# Altium schematic symbol library jlcpcb_2025_04_inductors_extended_0201.schlib: 459 symbols (part 7 of 9)
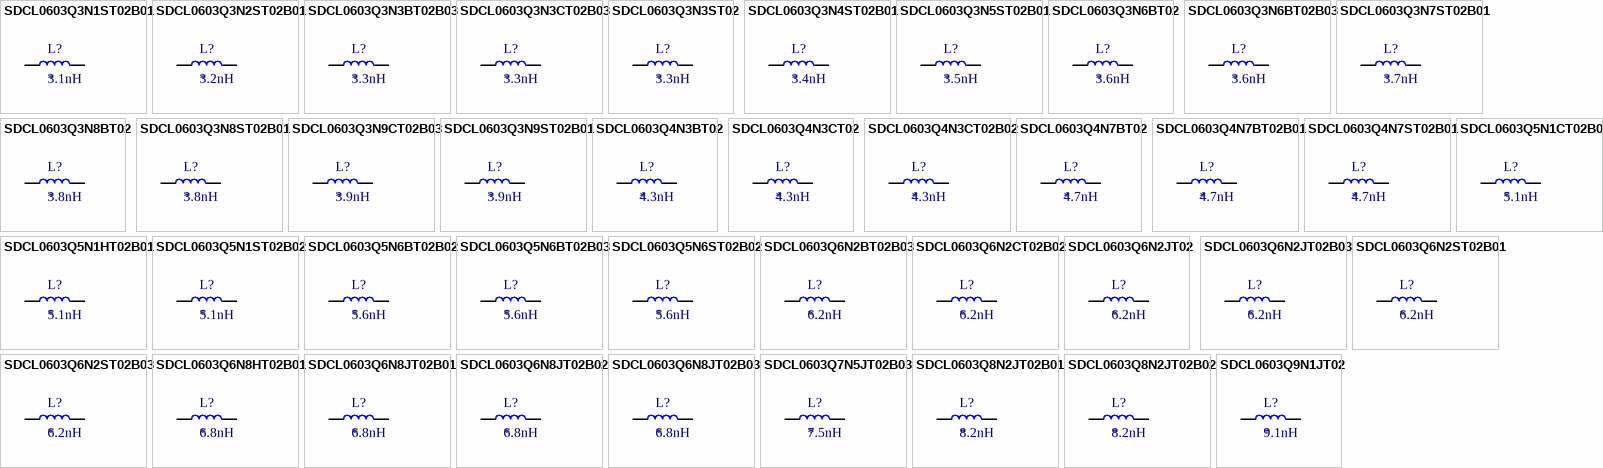
[diagram p17: symbols SDCL0603Q3N1ST02B01 to SDCL0603Q9N1JT02]

## SDCL0603Q3N9CT02B03
designator L?  Inductance: 3.9nH
Inductor, 3.9nH, 300mΩ, 400mA, SMD 0201; Manufacturer: Sunlord; Manufacturer Part Number: SDCL0603Q3N9CT02B03; Self-Resonant Frequency: 7.4GHz; Q Factor: 13@500MHz; Package Size: 0201; JLCPCB Basic Part: No; JLCPCB Part Number: C918993; Supplier 1: LCSC; Category: Inductors; Supplier Part Number 1: C918993; Rated Current: 400mA; DC Resistance: 300mΩ; RoHS: Yes; ComponentLink1Description: Datasheet; ComponentLink1URL: https://wmsc.lcsc.com/wmsc/upload/file/pdf/v2/lcsc/2310301641_Sunlord-SDCL0603Q3N9CT02B03_C918993.pdf; ComponentLink2Description: JLCPCB Part URL; ComponentLink2URL: https://jlcpcb.com/partdetail/C918993; ComponentLink3Description: LCSC Part URL; ComponentLink3URL: https://lcsc.com/product-detail/Inductors-SMD_Sunlord-Sunlord-SDCL0603Q3N9CT02B03_C918993.html
footprint IND-0201 (0201 (0603M) Inductor)
pins: 1, 2

## SDCL0603Q3N9ST02B01
designator L?  Inductance: 3.9nH
Inductor, 3.9nH, 420mΩ, 230mA, SMD 0201; Manufacturer: Sunlord; Manufacturer Part Number: SDCL0603Q3N9ST02B01; Package Size: 0201; JLCPCB Basic Part: No; JLCPCB Part Number: C279690; Supplier 1: LCSC; Category: Inductors; Supplier Part Number 1: C279690; Rated Current: 230mA; DC Resistance: 420mΩ; RoHS: Yes; ComponentLink1Description: Datasheet; ComponentLink1URL: https://wmsc.lcsc.com/wmsc/upload/file/pdf/v2/lcsc/2304140030_Sunlord-SDCL0603Q3N9ST02B01_C279690.pdf; ComponentLink2Description: JLCPCB Part URL; ComponentLink2URL: https://jlcpcb.com/partdetail/C279690; ComponentLink3Description: LCSC Part URL; ComponentLink3URL: https://lcsc.com/product-detail/Inductors-SMD_Sunlord-Sunlord-SDCL0603Q3N9ST02B01_C279690.html
footprint IND-0201 (0201 (0603M) Inductor)
pins: 1, 2

## SDCL0603Q4N3BT02
designator L?  Inductance: 4.3nH
Inductor, 4.3nH, SMD 0201; Manufacturer: Sunlord; Manufacturer Part Number: SDCL0603Q4N3BT02; Package Size: 0201; JLCPCB Basic Part: No; JLCPCB Part Number: C279727; Supplier 1: LCSC; Category: Inductors; Supplier Part Number 1: C279727; RoHS: Yes; ComponentLink1Description: Datasheet; ComponentLink1URL: https://wmsc.lcsc.com/wmsc/upload/file/pdf/v2/lcsc/2304140030_Sunlord-SDCL0603Q4N3BT02_C279727.pdf; ComponentLink2Description: JLCPCB Part URL; ComponentLink2URL: https://jlcpcb.com/partdetail/C279727; ComponentLink3Description: LCSC Part URL; ComponentLink3URL: https://lcsc.com/product-detail/Inductors-SMD_Sunlord-Sunlord-SDCL0603Q4N3BT02_C279727.html
footprint IND-0201 (0201 (0603M) Inductor)
pins: 1, 2

## SDCL0603Q4N3CT02
designator L?  Inductance: 4.3nH
Inductor, 4.3nH, SMD 0201; Manufacturer: Sunlord; Manufacturer Part Number: SDCL0603Q4N3CT02; Package Size: 0201; JLCPCB Basic Part: No; JLCPCB Part Number: C279807; Supplier 1: LCSC; Category: Inductors; Supplier Part Number 1: C279807; RoHS: Yes; ComponentLink1Description: Datasheet; ComponentLink1URL: https://wmsc.lcsc.com/wmsc/upload/file/pdf/v2/lcsc/2304140030_Sunlord-SDCL0603Q4N3CT02_C279807.pdf; ComponentLink2Description: JLCPCB Part URL; ComponentLink2URL: https://jlcpcb.com/partdetail/C279807; ComponentLink3Description: LCSC Part URL; ComponentLink3URL: https://lcsc.com/product-detail/Inductors-SMD_Sunlord-Sunlord-SDCL0603Q4N3CT02_C279807.html
footprint IND-0201 (0201 (0603M) Inductor)
pins: 1, 2

## SDCL0603Q4N3CT02B02
designator L?  Inductance: 4.3nH
Inductor, 4.3nH, 450mΩ, 300mA, SMD 0201; Manufacturer: Sunlord; Manufacturer Part Number: SDCL0603Q4N3CT02B02; Package Size: 0201; JLCPCB Basic Part: No; JLCPCB Part Number: C370166; Supplier 1: LCSC; Category: Inductors; Supplier Part Number 1: C370166; Rated Current: 300mA; DC Resistance: 450mΩ; RoHS: Yes; ComponentLink1Description: Datasheet; ComponentLink1URL: https://wmsc.lcsc.com/wmsc/upload/file/pdf/v2/lcsc/2304140030_Sunlord-SDCL0603Q4N3CT02B02_C370166.pdf; ComponentLink2Description: JLCPCB Part URL; ComponentLink2URL: https://jlcpcb.com/partdetail/C370166; ComponentLink3Description: LCSC Part URL; ComponentLink3URL: https://lcsc.com/product-detail/Inductors-SMD_Sunlord-Sunlord-SDCL0603Q4N3CT02B02_C370166.html
footprint IND-0201 (0201 (0603M) Inductor)
pins: 1, 2

## SDCL0603Q4N7BT02
designator L?  Inductance: 4.7nH
Inductor, 4.7nH, SMD 0201; Manufacturer: Sunlord; Manufacturer Part Number: SDCL0603Q4N7BT02; Package Size: 0201; JLCPCB Basic Part: No; JLCPCB Part Number: C279710; Supplier 1: LCSC; Category: Inductors; Supplier Part Number 1: C279710; RoHS: Yes; ComponentLink1Description: Datasheet; ComponentLink1URL: https://wmsc.lcsc.com/wmsc/upload/file/pdf/v2/lcsc/2304140030_Sunlord-SDCL0603Q4N7BT02_C279710.pdf; ComponentLink2Description: JLCPCB Part URL; ComponentLink2URL: https://jlcpcb.com/partdetail/C279710; ComponentLink3Description: LCSC Part URL; ComponentLink3URL: https://lcsc.com/product-detail/Inductors-SMD_Sunlord-Sunlord-SDCL0603Q4N7BT02_C279710.html
footprint IND-0201 (0201 (0603M) Inductor)
pins: 1, 2

## SDCL0603Q4N7BT02B01
designator L?  Inductance: 4.7nH
Inductor, 4.7nH, 450mΩ, 220mA, SMD 0201; Manufacturer: Sunlord; Manufacturer Part Number: SDCL0603Q4N7BT02B01; Package Size: 0201; JLCPCB Basic Part: No; JLCPCB Part Number: C279559; Supplier 1: LCSC; Category: Inductors; Supplier Part Number 1: C279559; Rated Current: 220mA; DC Resistance: 450mΩ; RoHS: Yes; ComponentLink1Description: Datasheet; ComponentLink1URL: https://wmsc.lcsc.com/wmsc/upload/file/pdf/v2/lcsc/2304140030_Sunlord-SDCL0603Q4N7BT02B01_C279559.pdf; ComponentLink2Description: JLCPCB Part URL; ComponentLink2URL: https://jlcpcb.com/partdetail/C279559; ComponentLink3Description: LCSC Part URL; ComponentLink3URL: https://lcsc.com/product-detail/Inductors-SMD_Sunlord-Sunlord-SDCL0603Q4N7BT02B01_C279559.html
footprint IND-0201 (0201 (0603M) Inductor)
pins: 1, 2

## SDCL0603Q4N7ST02B01
designator L?  Inductance: 4.7nH
Inductor, 4.7nH, 450mΩ, 220mA, SMD 0201; Manufacturer: Sunlord; Manufacturer Part Number: SDCL0603Q4N7ST02B01; Package Size: 0201; JLCPCB Basic Part: No; JLCPCB Part Number: C279698; Supplier 1: LCSC; Category: Inductors; Supplier Part Number 1: C279698; Rated Current: 220mA; DC Resistance: 450mΩ; RoHS: Yes; ComponentLink1Description: Datasheet; ComponentLink1URL: https://wmsc.lcsc.com/wmsc/upload/file/pdf/v2/lcsc/2304140030_Sunlord-SDCL0603Q4N7ST02B01_C279698.pdf; ComponentLink2Description: JLCPCB Part URL; ComponentLink2URL: https://jlcpcb.com/partdetail/C279698; ComponentLink3Description: LCSC Part URL; ComponentLink3URL: https://lcsc.com/product-detail/Inductors-SMD_Sunlord-Sunlord-SDCL0603Q4N7ST02B01_C279698.html
footprint IND-0201 (0201 (0603M) Inductor)
pins: 1, 2

## SDCL0603Q5N1CT02B03
designator L?  Inductance: 5.1nH
Inductor, 5.1nH, 400mΩ, 350mA, SMD 0201; Manufacturer: Sunlord; Manufacturer Part Number: SDCL0603Q5N1CT02B03; Package Size: 0201; JLCPCB Basic Part: No; JLCPCB Part Number: C370172; Supplier 1: LCSC; Category: Inductors; Supplier Part Number 1: C370172; Rated Current: 350mA; DC Resistance: 400mΩ; RoHS: Yes; ComponentLink1Description: Datasheet; ComponentLink1URL: https://wmsc.lcsc.com/wmsc/upload/file/pdf/v2/lcsc/2310301641_Sunlord-SDCL0603Q5N1CT02B03_C370172.pdf; ComponentLink2Description: JLCPCB Part URL; ComponentLink2URL: https://jlcpcb.com/partdetail/C370172; ComponentLink3Description: LCSC Part URL; ComponentLink3URL: https://lcsc.com/product-detail/Inductors-SMD_Sunlord-Sunlord-SDCL0603Q5N1CT02B03_C370172.html
footprint IND-0201 (0201 (0603M) Inductor)
pins: 1, 2

## SDCL0603Q5N1HT02B01
designator L?  Inductance: 5.1nH
Inductor, 5.1nH, ±3%, 460mΩ, 210mA, SMD 0201; Manufacturer: Sunlord; Manufacturer Part Number: SDCL0603Q5N1HT02B01; Self-Resonant Frequency: 5.9GHz; Q Factor: 13@500MHz; Package Size: 0201; JLCPCB Basic Part: No; JLCPCB Part Number: C882636; Supplier 1: LCSC; Category: Inductors; Supplier Part Number 1: C882636; Tolerance: ±3%; Rated Current: 210mA; DC Resistance: 460mΩ; RoHS: Yes; ComponentLink1Description: Datasheet; ComponentLink1URL: https://wmsc.lcsc.com/wmsc/upload/file/pdf/v2/lcsc/2010181606_Sunlord-SDCL0603Q5N1HT02B01_C882636.pdf; ComponentLink2Description: JLCPCB Part URL; ComponentLink2URL: https://jlcpcb.com/partdetail/C882636; ComponentLink3Description: LCSC Part URL; ComponentLink3URL: https://lcsc.com/product-detail/Inductors-SMD_Sunlord-Sunlord-SDCL0603Q5N1HT02B01_C882636.html
footprint IND-0201 (0201 (0603M) Inductor)
pins: 1, 2

## SDCL0603Q5N1ST02B02
designator L?  Inductance: 5.1nH
Inductor, 5.1nH, 460mΩ, 250mA, SMD 0201; Manufacturer: Sunlord; Manufacturer Part Number: SDCL0603Q5N1ST02B02; Package Size: 0201; JLCPCB Basic Part: No; JLCPCB Part Number: C279525; Supplier 1: LCSC; Category: Inductors; Supplier Part Number 1: C279525; Rated Current: 250mA; DC Resistance: 460mΩ; RoHS: Yes; ComponentLink1Description: Datasheet; ComponentLink1URL: https://wmsc.lcsc.com/wmsc/upload/file/pdf/v2/lcsc/2304140030_Sunlord-SDCL0603Q5N1ST02B02_C279525.pdf; ComponentLink2Description: JLCPCB Part URL; ComponentLink2URL: https://jlcpcb.com/partdetail/C279525; ComponentLink3Description: LCSC Part URL; ComponentLink3URL: https://lcsc.com/product-detail/Inductors-SMD_Sunlord-Sunlord-SDCL0603Q5N1ST02B02_C279525.html
footprint IND-0201 (0201 (0603M) Inductor)
pins: 1, 2

## SDCL0603Q5N6BT02B02
designator L?  Inductance: 5.6nH
Inductor, 5.6nH, 480mΩ, 250mA, SMD 0201; Manufacturer: Sunlord; Manufacturer Part Number: SDCL0603Q5N6BT02B02; Package Size: 0201; JLCPCB Basic Part: No; JLCPCB Part Number: C279878; Supplier 1: LCSC; Category: Inductors; Supplier Part Number 1: C279878; Rated Current: 250mA; DC Resistance: 480mΩ; RoHS: Yes; ComponentLink1Description: Datasheet; ComponentLink1URL: https://wmsc.lcsc.com/wmsc/upload/file/pdf/v2/lcsc/2304140030_Sunlord-SDCL0603Q5N6BT02B02_C279878.pdf; ComponentLink2Description: JLCPCB Part URL; ComponentLink2URL: https://jlcpcb.com/partdetail/C279878; ComponentLink3Description: LCSC Part URL; ComponentLink3URL: https://lcsc.com/product-detail/Inductors-SMD_Sunlord-Sunlord-SDCL0603Q5N6BT02B02_C279878.html
footprint IND-0201 (0201 (0603M) Inductor)
pins: 1, 2

## SDCL0603Q5N6BT02B03
designator L?  Inductance: 5.6nH
Inductor, 5.6nH, SMD 0201; Manufacturer: Sunlord; Manufacturer Part Number: SDCL0603Q5N6BT02B03; Package Size: 0201; JLCPCB Basic Part: No; JLCPCB Part Number: C2991782; Supplier 1: LCSC; Category: Inductors; Supplier Part Number 1: C2991782; RoHS: Yes; ComponentLink1Description: Datasheet; ComponentLink1URL: https://wmsc.lcsc.com/wmsc/upload/file/pdf/v2/lcsc/2310301641_Sunlord-SDCL0603Q5N6BT02B03_C2991782.pdf; ComponentLink2Description: JLCPCB Part URL; ComponentLink2URL: https://jlcpcb.com/partdetail/C2991782; ComponentLink3Description: LCSC Part URL; ComponentLink3URL: https://lcsc.com/product-detail/Inductors-SMD_Sunlord-Sunlord-SDCL0603Q5N6BT02B03_C2991782.html
footprint IND-0201 (0201 (0603M) Inductor)
pins: 1, 2

## SDCL0603Q5N6ST02B02
designator L?  Inductance: 5.6nH
Inductor, 5.6nH, 480mΩ, 250mA, SMD 0201; Manufacturer: Sunlord; Manufacturer Part Number: SDCL0603Q5N6ST02B02; Package Size: 0201; JLCPCB Basic Part: No; JLCPCB Part Number: C279528; Supplier 1: LCSC; Category: Inductors; Supplier Part Number 1: C279528; Rated Current: 250mA; DC Resistance: 480mΩ; RoHS: Yes; ComponentLink1Description: Datasheet; ComponentLink1URL: https://wmsc.lcsc.com/wmsc/upload/file/pdf/v2/lcsc/2304140030_Sunlord-SDCL0603Q5N6ST02B02_C279528.pdf; ComponentLink2Description: JLCPCB Part URL; ComponentLink2URL: https://jlcpcb.com/partdetail/C279528; ComponentLink3Description: LCSC Part URL; ComponentLink3URL: https://lcsc.com/product-detail/Inductors-SMD_Sunlord-Sunlord-SDCL0603Q5N6ST02B02_C279528.html
footprint IND-0201 (0201 (0603M) Inductor)
pins: 1, 2

## SDCL0603Q6N2BT02B03
designator L?  Inductance: 6.2nH
Inductor, 6.2nH, 480mΩ, 300mA, SMD 0201; Manufacturer: Sunlord; Manufacturer Part Number: SDCL0603Q6N2BT02B03; Package Size: 0201; JLCPCB Basic Part: No; JLCPCB Part Number: C370178; Supplier 1: LCSC; Category: Inductors; Supplier Part Number 1: C370178; Rated Current: 300mA; DC Resistance: 480mΩ; RoHS: Yes; ComponentLink1Description: Datasheet; ComponentLink1URL: https://wmsc.lcsc.com/wmsc/upload/file/pdf/v2/lcsc/2310301641_Sunlord-SDCL0603Q6N2BT02B03_C370178.pdf; ComponentLink2Description: JLCPCB Part URL; ComponentLink2URL: https://jlcpcb.com/partdetail/C370178; ComponentLink3Description: LCSC Part URL; ComponentLink3URL: https://lcsc.com/product-detail/Inductors-SMD_Sunlord-Sunlord-SDCL0603Q6N2BT02B03_C370178.html
footprint IND-0201 (0201 (0603M) Inductor)
pins: 1, 2

## SDCL0603Q6N2CT02B02
designator L?  Inductance: 6.2nH
Inductor, 6.2nH, 500mΩ, 200mA, SMD 0201; Manufacturer: Sunlord; Manufacturer Part Number: SDCL0603Q6N2CT02B02; Package Size: 0201; JLCPCB Basic Part: No; JLCPCB Part Number: C279742; Supplier 1: LCSC; Category: Inductors; Supplier Part Number 1: C279742; Rated Current: 200mA; DC Resistance: 500mΩ; RoHS: Yes; ComponentLink1Description: Datasheet; ComponentLink1URL: https://wmsc.lcsc.com/wmsc/upload/file/pdf/v2/lcsc/2304140030_Sunlord-SDCL0603Q6N2CT02B02_C279742.pdf; ComponentLink2Description: JLCPCB Part URL; ComponentLink2URL: https://jlcpcb.com/partdetail/C279742; ComponentLink3Description: LCSC Part URL; ComponentLink3URL: https://lcsc.com/product-detail/Inductors-SMD_Sunlord-Sunlord-SDCL0603Q6N2CT02B02_C279742.html
footprint IND-0201 (0201 (0603M) Inductor)
pins: 1, 2

## SDCL0603Q6N2JT02
designator L?  Inductance: 6.2nH
Inductor, 6.2nH, ±5%, SMD 0201; Manufacturer: Sunlord; Manufacturer Part Number: SDCL0603Q6N2JT02; Package Size: 0201; JLCPCB Basic Part: No; JLCPCB Part Number: C918997; Supplier 1: LCSC; Category: Inductors; Supplier Part Number 1: C918997; Tolerance: ±5%; RoHS: Yes; ComponentLink1Description: Datasheet; ComponentLink2Description: JLCPCB Part URL; ComponentLink2URL: https://jlcpcb.com/partdetail/C918997; ComponentLink3Description: LCSC Part URL; ComponentLink3URL: https://lcsc.com/product-detail/Inductors-SMD_Sunlord-Sunlord-SDCL0603Q6N2JT02_C918997.html
footprint IND-0201 (0201 (0603M) Inductor)
pins: 1, 2

## SDCL0603Q6N2JT02B03
designator L?  Inductance: 6.2nH
Inductor, 6.2nH, ±5%, 480mΩ, 300mA, SMD 0201; Manufacturer: Sunlord; Manufacturer Part Number: SDCL0603Q6N2JT02B03; Self-Resonant Frequency: 5.1GHz; Q Factor: 13@500MHz; Package Size: 0201; JLCPCB Basic Part: No; JLCPCB Part Number: C525657; Supplier 1: LCSC; Category: Inductors; Supplier Part Number 1: C525657; Tolerance: ±5%; Rated Current: 300mA; DC Resistance: 480mΩ; RoHS: Yes; ComponentLink1Description: Datasheet; ComponentLink1URL: https://wmsc.lcsc.com/wmsc/upload/file/pdf/v2/lcsc/2310301641_Sunlord-SDCL0603Q6N2JT02B03_C525657.pdf; ComponentLink2Description: JLCPCB Part URL; ComponentLink2URL: https://jlcpcb.com/partdetail/C525657; ComponentLink3Description: LCSC Part URL; ComponentLink3URL: https://lcsc.com/product-detail/Inductors-SMD_Sunlord-Sunlord-SDCL0603Q6N2JT02B03_C525657.html
footprint IND-0201 (0201 (0603M) Inductor)
pins: 1, 2

## SDCL0603Q6N2ST02B01
designator L?  Inductance: 6.2nH
Inductor, 6.2nH, 480mΩ, 210mA, SMD 0201; Manufacturer: Sunlord; Manufacturer Part Number: SDCL0603Q6N2ST02B01; Package Size: 0201; JLCPCB Basic Part: No; JLCPCB Part Number: C127832; Supplier 1: LCSC; Category: Inductors; Supplier Part Number 1: C127832; Rated Current: 210mA; DC Resistance: 480mΩ; RoHS: Yes; ComponentLink1Description: Datasheet; ComponentLink1URL: https://wmsc.lcsc.com/wmsc/upload/file/pdf/v2/lcsc/2304140030_Sunlord-SDCL0603Q6N2ST02B01_C127832.pdf; ComponentLink2Description: JLCPCB Part URL; ComponentLink2URL: https://jlcpcb.com/partdetail/C127832; ComponentLink3Description: LCSC Part URL; ComponentLink3URL: https://lcsc.com/product-detail/Inductors-SMD_Sunlord-Sunlord-SDCL0603Q6N2ST02B01_C127832.html
footprint IND-0201 (0201 (0603M) Inductor)
pins: 1, 2

## SDCL0603Q6N2ST02B03
designator L?  Inductance: 6.2nH
Inductor, 6.2nH, 480mΩ, 300mA, SMD 0201; Manufacturer: Sunlord; Manufacturer Part Number: SDCL0603Q6N2ST02B03; Package Size: 0201; JLCPCB Basic Part: No; JLCPCB Part Number: C279693; Supplier 1: LCSC; Category: Inductors; Supplier Part Number 1: C279693; Rated Current: 300mA; DC Resistance: 480mΩ; RoHS: Yes; ComponentLink1Description: Datasheet; ComponentLink1URL: https://wmsc.lcsc.com/wmsc/upload/file/pdf/v2/lcsc/2310301641_Sunlord-SDCL0603Q6N2ST02B03_C279693.pdf; ComponentLink2Description: JLCPCB Part URL; ComponentLink2URL: https://jlcpcb.com/partdetail/C279693; ComponentLink3Description: LCSC Part URL; ComponentLink3URL: https://lcsc.com/product-detail/Inductors-SMD_Sunlord-Sunlord-SDCL0603Q6N2ST02B03_C279693.html
footprint IND-0201 (0201 (0603M) Inductor)
pins: 1, 2

## SDCL0603Q6N8HT02B01
designator L?  Inductance: 6.8nH
Inductor, 6.8nH, ±3%, 500mΩ, 200mA, SMD 0201; Manufacturer: Sunlord; Manufacturer Part Number: SDCL0603Q6N8HT02B01; Package Size: 0201; JLCPCB Basic Part: No; JLCPCB Part Number: C279837; Supplier 1: LCSC; Category: Inductors; Supplier Part Number 1: C279837; Tolerance: ±3%; Rated Current: 200mA; DC Resistance: 500mΩ; RoHS: Yes; ComponentLink1Description: Datasheet; ComponentLink1URL: https://wmsc.lcsc.com/wmsc/upload/file/pdf/v2/lcsc/2304140030_Sunlord-SDCL0603Q6N8HT02B01_C279837.pdf; ComponentLink2Description: JLCPCB Part URL; ComponentLink2URL: https://jlcpcb.com/partdetail/C279837; ComponentLink3Description: LCSC Part URL; ComponentLink3URL: https://lcsc.com/product-detail/Inductors-SMD_Sunlord-Sunlord-SDCL0603Q6N8HT02B01_C279837.html
footprint IND-0201 (0201 (0603M) Inductor)
pins: 1, 2

## SDCL0603Q6N8JT02B01
designator L?  Inductance: 6.8nH
Inductor, 6.8nH, ±5%, 500mΩ, 200mA, SMD 0201; Manufacturer: Sunlord; Manufacturer Part Number: SDCL0603Q6N8JT02B01; Package Size: 0201; JLCPCB Basic Part: No; JLCPCB Part Number: C279728; Supplier 1: LCSC; Category: Inductors; Supplier Part Number 1: C279728; Tolerance: ±5%; Rated Current: 200mA; DC Resistance: 500mΩ; RoHS: Yes; ComponentLink1Description: Datasheet; ComponentLink1URL: https://wmsc.lcsc.com/wmsc/upload/file/pdf/v2/lcsc/2304140030_Sunlord-SDCL0603Q6N8JT02B01_C279728.pdf; ComponentLink2Description: JLCPCB Part URL; ComponentLink2URL: https://jlcpcb.com/partdetail/C279728; ComponentLink3Description: LCSC Part URL; ComponentLink3URL: https://lcsc.com/product-detail/Inductors-SMD_Sunlord-Sunlord-SDCL0603Q6N8JT02B01_C279728.html
footprint IND-0201 (0201 (0603M) Inductor)
pins: 1, 2

## SDCL0603Q6N8JT02B02
designator L?  Inductance: 6.8nH
Inductor, 6.8nH, ±5%, 500mΩ, 200mA, SMD 0201; Manufacturer: Sunlord; Manufacturer Part Number: SDCL0603Q6N8JT02B02; Package Size: 0201; JLCPCB Basic Part: No; JLCPCB Part Number: C279548; Supplier 1: LCSC; Category: Inductors; Supplier Part Number 1: C279548; Tolerance: ±5%; Rated Current: 200mA; DC Resistance: 500mΩ; RoHS: Yes; ComponentLink1Description: Datasheet; ComponentLink1URL: https://wmsc.lcsc.com/wmsc/upload/file/pdf/v2/lcsc/2304140030_Sunlord-SDCL0603Q6N8JT02B02_C279548.pdf; ComponentLink2Description: JLCPCB Part URL; ComponentLink2URL: https://jlcpcb.com/partdetail/C279548; ComponentLink3Description: LCSC Part URL; ComponentLink3URL: https://lcsc.com/product-detail/Inductors-SMD_Sunlord-Sunlord-SDCL0603Q6N8JT02B02_C279548.html
footprint IND-0201 (0201 (0603M) Inductor)
pins: 1, 2

## SDCL0603Q6N8JT02B03
designator L?  Inductance: 6.8nH
Inductor, 6.8nH, ±5%, 500mΩ, 300mA, SMD 0201; Manufacturer: Sunlord; Manufacturer Part Number: SDCL0603Q6N8JT02B03; Self-Resonant Frequency: 5.5GHz; Q Factor: 13@500MHz; Package Size: 0201; JLCPCB Basic Part: No; JLCPCB Part Number: C279892; Supplier 1: LCSC; Category: Inductors; Supplier Part Number 1: C279892; Tolerance: ±5%; Rated Current: 300mA; DC Resistance: 500mΩ; RoHS: Yes; ComponentLink1Description: Datasheet; ComponentLink1URL: https://wmsc.lcsc.com/wmsc/upload/file/pdf/v2/lcsc/2310301641_Sunlord-SDCL0603Q6N8JT02B03_C279892.pdf; ComponentLink2Description: JLCPCB Part URL; ComponentLink2URL: https://jlcpcb.com/partdetail/C279892; ComponentLink3Description: LCSC Part URL; ComponentLink3URL: https://lcsc.com/product-detail/Inductors-SMD_Sunlord-Sunlord-SDCL0603Q6N8JT02B03_C279892.html
footprint IND-0201 (0201 (0603M) Inductor)
pins: 1, 2

## SDCL0603Q7N5JT02B03
designator L?  Inductance: 7.5nH
Inductor, 7.5nH, ±5%, 500mΩ, 300mA, SMD 0201; Manufacturer: Sunlord; Manufacturer Part Number: SDCL0603Q7N5JT02B03; Self-Resonant Frequency: 500MHz; Q Factor: 13@500MHz; Package Size: 0201; JLCPCB Basic Part: No; JLCPCB Part Number: C279817; Supplier 1: LCSC; Category: Inductors; Supplier Part Number 1: C279817; Tolerance: ±5%; Rated Current: 300mA; DC Resistance: 500mΩ; RoHS: Yes; ComponentLink1Description: Datasheet; ComponentLink1URL: https://wmsc.lcsc.com/wmsc/upload/file/pdf/v2/lcsc/2310301641_Sunlord-SDCL0603Q7N5JT02B03_C279817.pdf; ComponentLink2Description: JLCPCB Part URL; ComponentLink2URL: https://jlcpcb.com/partdetail/C279817; ComponentLink3Description: LCSC Part URL; ComponentLink3URL: https://lcsc.com/product-detail/Inductors-SMD_Sunlord-Sunlord-SDCL0603Q7N5JT02B03_C279817.html
footprint IND-0201 (0201 (0603M) Inductor)
pins: 1, 2

## SDCL0603Q8N2JT02B01
designator L?  Inductance: 8.2nH
Inductor, 8.2nH, ±5%, 560mΩ, 190mA, SMD 0201; Manufacturer: Sunlord; Manufacturer Part Number: SDCL0603Q8N2JT02B01; Package Size: 0201; JLCPCB Basic Part: No; JLCPCB Part Number: C279557; Supplier 1: LCSC; Category: Inductors; Supplier Part Number 1: C279557; Tolerance: ±5%; Rated Current: 190mA; DC Resistance: 560mΩ; RoHS: Yes; ComponentLink1Description: Datasheet; ComponentLink1URL: https://wmsc.lcsc.com/wmsc/upload/file/pdf/v2/lcsc/2304140030_Sunlord-SDCL0603Q8N2JT02B01_C279557.pdf; ComponentLink2Description: JLCPCB Part URL; ComponentLink2URL: https://jlcpcb.com/partdetail/C279557; ComponentLink3Description: LCSC Part URL; ComponentLink3URL: https://lcsc.com/product-detail/Inductors-SMD_Sunlord-Sunlord-SDCL0603Q8N2JT02B01_C279557.html
footprint IND-0201 (0201 (0603M) Inductor)
pins: 1, 2

## SDCL0603Q8N2JT02B02
designator L?  Inductance: 8.2nH
Inductor, 8.2nH, ±5%, 720mΩ, 200mA, SMD 0201; Manufacturer: Sunlord; Manufacturer Part Number: SDCL0603Q8N2JT02B02; Package Size: 0201; JLCPCB Basic Part: No; JLCPCB Part Number: C279565; Supplier 1: LCSC; Category: Inductors; Supplier Part Number 1: C279565; Tolerance: ±5%; Rated Current: 200mA; DC Resistance: 720mΩ; RoHS: Yes; ComponentLink1Description: Datasheet; ComponentLink1URL: https://wmsc.lcsc.com/wmsc/upload/file/pdf/v2/lcsc/2304140030_Sunlord-SDCL0603Q8N2JT02B02_C279565.pdf; ComponentLink2Description: JLCPCB Part URL; ComponentLink2URL: https://jlcpcb.com/partdetail/C279565; ComponentLink3Description: LCSC Part URL; ComponentLink3URL: https://lcsc.com/product-detail/Inductors-SMD_Sunlord-Sunlord-SDCL0603Q8N2JT02B02_C279565.html
footprint IND-0201 (0201 (0603M) Inductor)
pins: 1, 2

## SDCL0603Q9N1JT02
designator L?  Inductance: 9.1nH
Inductor, 9.1nH, ±5%, 720mΩ, 170mA, SMD 0201; Manufacturer: Sunlord; Manufacturer Part Number: SDCL0603Q9N1JT02; Package Size: 0201; JLCPCB Basic Part: No; JLCPCB Part Number: C57763; Supplier 1: LCSC; Category: Inductors; Supplier Part Number 1: C57763; Tolerance: ±5%; Rated Current: 170mA; DC Resistance: 720mΩ; RoHS: Yes; ComponentLink1Description: Datasheet; ComponentLink1URL: https://wmsc.lcsc.com/wmsc/upload/file/pdf/v2/lcsc/2304140030_Sunlord-SDCL0603Q9N1JT02_C57763.pdf; ComponentLink2Description: JLCPCB Part URL; ComponentLink2URL: https://jlcpcb.com/partdetail/C57763; ComponentLink3Description: LCSC Part URL; ComponentLink3URL: https://lcsc.com/product-detail/Inductors-SMD_Sunlord-Sunlord-SDCL0603Q9N1JT02_C57763.html
footprint IND-0201 (0201 (0603M) Inductor)
pins: 1, 2

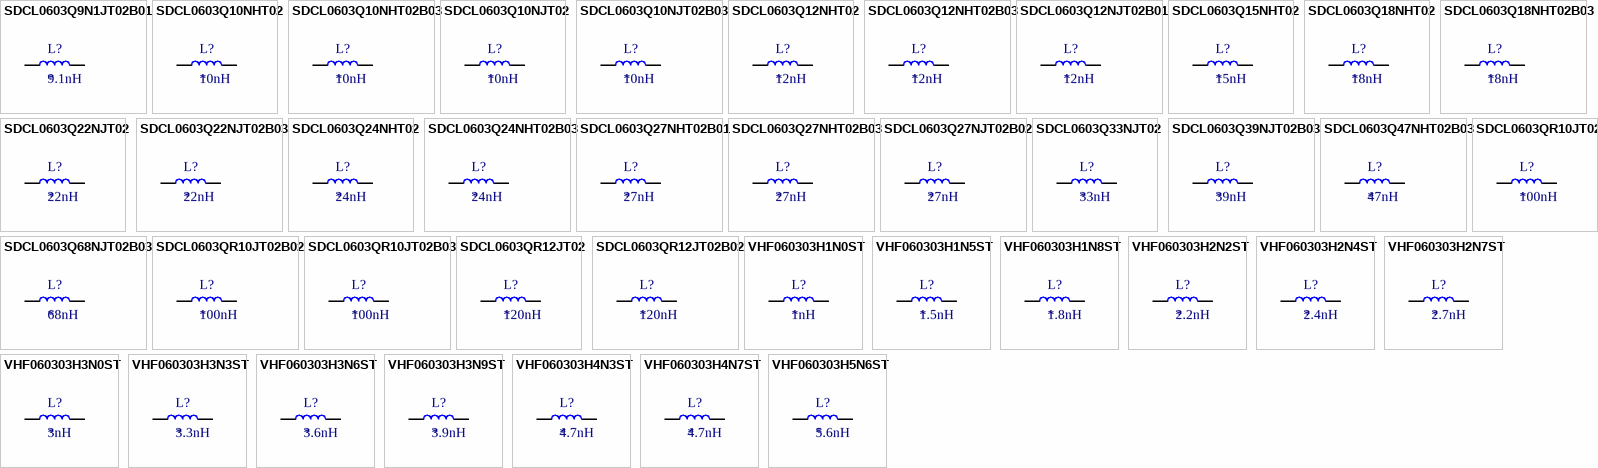
[diagram p9: symbols SDCL0603Q9N1JT02B01 to VHF060303H5N6ST]

## SDCL0603Q9N1JT02B01
designator L?  Inductance: 9.1nH
Inductor, 9.1nH, ±5%, 720mΩ, 170mA, SMD 0201; Manufacturer: Sunlord; Manufacturer Part Number: SDCL0603Q9N1JT02B01; Package Size: 0201; JLCPCB Basic Part: No; JLCPCB Part Number: C279729; Supplier 1: LCSC; Category: Inductors; Supplier Part Number 1: C279729; Tolerance: ±5%; Rated Current: 170mA; DC Resistance: 720mΩ; RoHS: Yes; ComponentLink1Description: Datasheet; ComponentLink1URL: https://wmsc.lcsc.com/wmsc/upload/file/pdf/v2/lcsc/2304140030_Sunlord-SDCL0603Q9N1JT02B01_C279729.pdf; ComponentLink2Description: JLCPCB Part URL; ComponentLink2URL: https://jlcpcb.com/partdetail/C279729; ComponentLink3Description: LCSC Part URL; ComponentLink3URL: https://lcsc.com/product-detail/Inductors-SMD_Sunlord-Sunlord-SDCL0603Q9N1JT02B01_C279729.html
footprint IND-0201 (0201 (0603M) Inductor)
pins: 1, 2

## SDCL0603Q10NHT02
designator L?  Inductance: 10nH
Inductor, 10nH, ±3%, 800mΩ, 160mA, SMD 0201; Manufacturer: Sunlord; Manufacturer Part Number: SDCL0603Q10NHT02; Package Size: 0201; JLCPCB Basic Part: No; JLCPCB Part Number: C279686; Supplier 1: LCSC; Category: Inductors; Supplier Part Number 1: C279686; Tolerance: ±3%; Rated Current: 160mA; DC Resistance: 800mΩ; RoHS: Yes; ComponentLink1Description: Datasheet; ComponentLink1URL: https://wmsc.lcsc.com/wmsc/upload/file/pdf/v2/lcsc/2304140030_Sunlord-SDCL0603Q10NHT02_C279686.pdf; ComponentLink2Description: JLCPCB Part URL; ComponentLink2URL: https://jlcpcb.com/partdetail/C279686; ComponentLink3Description: LCSC Part URL; ComponentLink3URL: https://lcsc.com/product-detail/Inductors-SMD_Sunlord-Sunlord-SDCL0603Q10NHT02_C279686.html
footprint IND-0201 (0201 (0603M) Inductor)
pins: 1, 2

## SDCL0603Q10NHT02B03
designator L?  Inductance: 10nH
Inductor, 10nH, ±3%, 700mΩ, 250mA, SMD 0201; Manufacturer: Sunlord; Manufacturer Part Number: SDCL0603Q10NHT02B03; Q Factor: 13@500MHz; Package Size: 0201; JLCPCB Basic Part: No; JLCPCB Part Number: C2982931; Supplier 1: LCSC; Category: Inductors; Supplier Part Number 1: C2982931; Tolerance: ±3%; Rated Current: 250mA; DC Resistance: 700mΩ; RoHS: Yes; ComponentLink1Description: Datasheet; ComponentLink1URL: https://wmsc.lcsc.com/wmsc/upload/file/pdf/v2/lcsc/2310301641_Sunlord-SDCL0603Q10NHT02B03_C2982931.pdf; ComponentLink2Description: JLCPCB Part URL; ComponentLink2URL: https://jlcpcb.com/partdetail/C2982931; ComponentLink3Description: LCSC Part URL; ComponentLink3URL: https://lcsc.com/product-detail/Inductors-SMD_Sunlord-Sunlord-SDCL0603Q10NHT02B03_C2982931.html
footprint IND-0201 (0201 (0603M) Inductor)
pins: 1, 2

## SDCL0603Q10NJT02
designator L?  Inductance: 10nH
Inductor, 10nH, ±5%, 800mΩ, 160mA, SMD 0201; Manufacturer: Sunlord; Manufacturer Part Number: SDCL0603Q10NJT02; Package Size: 0201; JLCPCB Basic Part: No; JLCPCB Part Number: C50386; Supplier 1: LCSC; Category: Inductors; Supplier Part Number 1: C50386; Tolerance: ±5%; Rated Current: 160mA; DC Resistance: 800mΩ; RoHS: Yes; ComponentLink1Description: Datasheet; ComponentLink1URL: https://wmsc.lcsc.com/wmsc/upload/file/pdf/v2/lcsc/2304140030_Sunlord-SDCL0603Q10NJT02_C50386.pdf; ComponentLink2Description: JLCPCB Part URL; ComponentLink2URL: https://jlcpcb.com/partdetail/C50386; ComponentLink3Description: LCSC Part URL; ComponentLink3URL: https://lcsc.com/product-detail/Inductors-SMD_Sunlord-Sunlord-SDCL0603Q10NJT02_C50386.html
footprint IND-0201 (0201 (0603M) Inductor)
pins: 1, 2

## SDCL0603Q10NJT02B03
designator L?  Inductance: 10nH
Inductor, 10nH, ±5%, 700mΩ, 250mA, SMD 0201; Manufacturer: Sunlord; Manufacturer Part Number: SDCL0603Q10NJT02B03; Self-Resonant Frequency: 3.8GHz; Q Factor: 13@500MHz; Package Size: 0201; JLCPCB Basic Part: No; JLCPCB Part Number: C279799; Supplier 1: LCSC; Category: Inductors; Supplier Part Number 1: C279799; Tolerance: ±5%; Rated Current: 250mA; DC Resistance: 700mΩ; RoHS: Yes; ComponentLink1Description: Datasheet; ComponentLink1URL: https://wmsc.lcsc.com/wmsc/upload/file/pdf/v2/lcsc/2310301641_Sunlord-SDCL0603Q10NJT02B03_C279799.pdf; ComponentLink2Description: JLCPCB Part URL; ComponentLink2URL: https://jlcpcb.com/partdetail/C279799; ComponentLink3Description: LCSC Part URL; ComponentLink3URL: https://lcsc.com/product-detail/Inductors-SMD_Sunlord-Sunlord-SDCL0603Q10NJT02B03_C279799.html
footprint IND-0201 (0201 (0603M) Inductor)
pins: 1, 2

## SDCL0603Q12NHT02
designator L?  Inductance: 12nH
Inductor, 12nH, ±3%, 800mΩ, 160mA, SMD 0201; Manufacturer: Sunlord; Manufacturer Part Number: SDCL0603Q12NHT02; Package Size: 0201; JLCPCB Basic Part: No; JLCPCB Part Number: C279719; Supplier 1: LCSC; Category: Inductors; Supplier Part Number 1: C279719; Tolerance: ±3%; Rated Current: 160mA; DC Resistance: 800mΩ; RoHS: Yes; ComponentLink1Description: Datasheet; ComponentLink1URL: https://wmsc.lcsc.com/wmsc/upload/file/pdf/v2/lcsc/2304140030_Sunlord-SDCL0603Q12NHT02_C279719.pdf; ComponentLink2Description: JLCPCB Part URL; ComponentLink2URL: https://jlcpcb.com/partdetail/C279719; ComponentLink3Description: LCSC Part URL; ComponentLink3URL: https://lcsc.com/product-detail/Inductors-SMD_Sunlord-Sunlord-SDCL0603Q12NHT02_C279719.html
footprint IND-0201 (0201 (0603M) Inductor)
pins: 1, 2

## SDCL0603Q12NHT02B03
designator L?  Inductance: 12nH
Inductor, 12nH, ±3%, 700mΩ, 250mA, SMD 0201; Manufacturer: Sunlord; Manufacturer Part Number: SDCL0603Q12NHT02B03; Self-Resonant Frequency: 3.4GHz; Q Factor: 13@500MHz; Package Size: 0201; JLCPCB Basic Part: No; JLCPCB Part Number: C2994664; Supplier 1: LCSC; Category: Inductors; Supplier Part Number 1: C2994664; Tolerance: ±3%; Rated Current: 250mA; DC Resistance: 700mΩ; RoHS: Yes; ComponentLink1Description: Datasheet; ComponentLink1URL: https://wmsc.lcsc.com/wmsc/upload/file/pdf/v2/lcsc/2310301641_Sunlord-SDCL0603Q12NHT02B03_C2994664.pdf; ComponentLink2Description: JLCPCB Part URL; ComponentLink2URL: https://jlcpcb.com/partdetail/C2994664; ComponentLink3Description: LCSC Part URL; ComponentLink3URL: https://lcsc.com/product-detail/Inductors-SMD_Sunlord-Sunlord-SDCL0603Q12NHT02B03_C2994664.html
footprint IND-0201 (0201 (0603M) Inductor)
pins: 1, 2

## SDCL0603Q12NJT02B01
designator L?  Inductance: 12nH
Inductor, 12nH, ±5%, 800mΩ, 160mA, SMD 0201; Manufacturer: Sunlord; Manufacturer Part Number: SDCL0603Q12NJT02B01; Package Size: 0201; JLCPCB Basic Part: No; JLCPCB Part Number: C279672; Supplier 1: LCSC; Category: Inductors; Supplier Part Number 1: C279672; Tolerance: ±5%; Rated Current: 160mA; DC Resistance: 800mΩ; RoHS: Yes; ComponentLink1Description: Datasheet; ComponentLink1URL: https://wmsc.lcsc.com/wmsc/upload/file/pdf/v2/lcsc/2304140030_Sunlord-SDCL0603Q12NJT02B01_C279672.pdf; ComponentLink2Description: JLCPCB Part URL; ComponentLink2URL: https://jlcpcb.com/partdetail/C279672; ComponentLink3Description: LCSC Part URL; ComponentLink3URL: https://lcsc.com/product-detail/Inductors-SMD_Sunlord-Sunlord-SDCL0603Q12NJT02B01_C279672.html
footprint IND-0201 (0201 (0603M) Inductor)
pins: 1, 2

## SDCL0603Q15NHT02
designator L?  Inductance: 15nH
Inductor, 15nH, ±3%, 850mΩ, 160mA, SMD 0201; Manufacturer: Sunlord; Manufacturer Part Number: SDCL0603Q15NHT02; Package Size: 0201; JLCPCB Basic Part: No; JLCPCB Part Number: C279680; Supplier 1: LCSC; Category: Inductors; Supplier Part Number 1: C279680; Tolerance: ±3%; Rated Current: 160mA; DC Resistance: 850mΩ; RoHS: Yes; ComponentLink1Description: Datasheet; ComponentLink1URL: https://wmsc.lcsc.com/wmsc/upload/file/pdf/v2/lcsc/2304140030_Sunlord-SDCL0603Q15NHT02_C279680.pdf; ComponentLink2Description: JLCPCB Part URL; ComponentLink2URL: https://jlcpcb.com/partdetail/C279680; ComponentLink3Description: LCSC Part URL; ComponentLink3URL: https://lcsc.com/product-detail/Inductors-SMD_Sunlord-Sunlord-SDCL0603Q15NHT02_C279680.html
footprint IND-0201 (0201 (0603M) Inductor)
pins: 1, 2

## SDCL0603Q18NHT02
designator L?  Inductance: 18nH
Inductor, 18nH, ±3%, 1Ω, 140mA, SMD 0201; Manufacturer: Sunlord; Manufacturer Part Number: SDCL0603Q18NHT02; Package Size: 0201; JLCPCB Basic Part: No; JLCPCB Part Number: C279855; Supplier 1: LCSC; Category: Inductors; Supplier Part Number 1: C279855; Tolerance: ±3%; Rated Current: 140mA; DC Resistance: 1Ω; RoHS: Yes; ComponentLink1Description: Datasheet; ComponentLink1URL: https://wmsc.lcsc.com/wmsc/upload/file/pdf/v2/lcsc/2304140030_Sunlord-SDCL0603Q18NHT02_C279855.pdf; ComponentLink2Description: JLCPCB Part URL; ComponentLink2URL: https://jlcpcb.com/partdetail/C279855; ComponentLink3Description: LCSC Part URL; ComponentLink3URL: https://lcsc.com/product-detail/Inductors-SMD_Sunlord-Sunlord-SDCL0603Q18NHT02_C279855.html
footprint IND-0201 (0201 (0603M) Inductor)
pins: 1, 2

## SDCL0603Q18NHT02B03
designator L?  Inductance: 18nH
Inductor, 18nH, ±3%, 800mΩ, 200mA, SMD 0201; Manufacturer: Sunlord; Manufacturer Part Number: SDCL0603Q18NHT02B03; Q Factor: 13@500MHz; Package Size: 0201; JLCPCB Basic Part: No; JLCPCB Part Number: C370111; Supplier 1: LCSC; Category: Inductors; Supplier Part Number 1: C370111; Tolerance: ±3%; Rated Current: 200mA; DC Resistance: 800mΩ; RoHS: Yes; ComponentLink1Description: Datasheet; ComponentLink1URL: https://wmsc.lcsc.com/wmsc/upload/file/pdf/v2/lcsc/2310301641_Sunlord-SDCL0603Q18NHT02B03_C370111.pdf; ComponentLink2Description: JLCPCB Part URL; ComponentLink2URL: https://jlcpcb.com/partdetail/C370111; ComponentLink3Description: LCSC Part URL; ComponentLink3URL: https://lcsc.com/product-detail/Inductors-SMD_Sunlord-Sunlord-SDCL0603Q18NHT02B03_C370111.html
footprint IND-0201 (0201 (0603M) Inductor)
pins: 1, 2

## SDCL0603Q22NJT02
designator L?  Inductance: 22nH
Inductor, 22nH, ±5%, 1.2Ω, 130mA, SMD 0201; Manufacturer: Sunlord; Manufacturer Part Number: SDCL0603Q22NJT02; Package Size: 0201; JLCPCB Basic Part: No; JLCPCB Part Number: C95927; Supplier 1: LCSC; Category: Inductors; Supplier Part Number 1: C95927; Tolerance: ±5%; Rated Current: 130mA; DC Resistance: 1.2Ω; RoHS: Yes; ComponentLink1Description: Datasheet; ComponentLink1URL: https://wmsc.lcsc.com/wmsc/upload/file/pdf/v2/lcsc/2304140030_Sunlord-SDCL0603Q22NJT02_C95927.pdf; ComponentLink2Description: JLCPCB Part URL; ComponentLink2URL: https://jlcpcb.com/partdetail/C95927; ComponentLink3Description: LCSC Part URL; ComponentLink3URL: https://lcsc.com/product-detail/Inductors-SMD_Sunlord-Sunlord-SDCL0603Q22NJT02_C95927.html
footprint IND-0201 (0201 (0603M) Inductor)
pins: 1, 2

## SDCL0603Q22NJT02B03
designator L?  Inductance: 22nH
Inductor, 22nH, ±5%, 1.2Ω, 150mA, SMD 0201; Manufacturer: Sunlord; Manufacturer Part Number: SDCL0603Q22NJT02B03; Self-Resonant Frequency: 500MHz; Q Factor: 13@500MHz; Package Size: 0201; JLCPCB Basic Part: No; JLCPCB Part Number: C279713; Supplier 1: LCSC; Category: Inductors; Supplier Part Number 1: C279713; Tolerance: ±5%; Rated Current: 150mA; DC Resistance: 1.2Ω; RoHS: Yes; ComponentLink1Description: Datasheet; ComponentLink1URL: https://wmsc.lcsc.com/wmsc/upload/file/pdf/v2/lcsc/2310301641_Sunlord-SDCL0603Q22NJT02B03_C279713.pdf; ComponentLink2Description: JLCPCB Part URL; ComponentLink2URL: https://jlcpcb.com/partdetail/C279713; ComponentLink3Description: LCSC Part URL; ComponentLink3URL: https://lcsc.com/product-detail/Inductors-SMD_Sunlord-Sunlord-SDCL0603Q22NJT02B03_C279713.html
footprint IND-0201 (0201 (0603M) Inductor)
pins: 1, 2

## SDCL0603Q24NHT02
designator L?  Inductance: 24nH
Inductor, 24nH, ±3%, SMD 0201; Manufacturer: Sunlord; Manufacturer Part Number: SDCL0603Q24NHT02; Package Size: 0201; JLCPCB Basic Part: No; JLCPCB Part Number: C279820; Supplier 1: LCSC; Category: Inductors; Supplier Part Number 1: C279820; Tolerance: ±3%; RoHS: Yes; ComponentLink1Description: Datasheet; ComponentLink1URL: https://wmsc.lcsc.com/wmsc/upload/file/pdf/v2/lcsc/2205301616_Sunlord-SDCL0603Q24NHT02_C279820.pdf; ComponentLink2Description: JLCPCB Part URL; ComponentLink2URL: https://jlcpcb.com/partdetail/C279820; ComponentLink3Description: LCSC Part URL; ComponentLink3URL: https://lcsc.com/product-detail/Inductors-SMD_Sunlord-Sunlord-SDCL0603Q24NHT02_C279820.html
footprint IND-0201 (0201 (0603M) Inductor)
pins: 1, 2

## SDCL0603Q24NHT02B03
designator L?  Inductance: 24nH
Inductor, 24nH, ±3%, SMD 0201; Manufacturer: Sunlord; Manufacturer Part Number: SDCL0603Q24NHT02B03; Package Size: 0201; JLCPCB Basic Part: No; JLCPCB Part Number: C2991767; Supplier 1: LCSC; Category: Inductors; Supplier Part Number 1: C2991767; Tolerance: ±3%; RoHS: Yes; ComponentLink1Description: Datasheet; ComponentLink1URL: https://wmsc.lcsc.com/wmsc/upload/file/pdf/v2/lcsc/2310301641_Sunlord-SDCL0603Q24NHT02B03_C2991767.pdf; ComponentLink2Description: JLCPCB Part URL; ComponentLink2URL: https://jlcpcb.com/partdetail/C2991767; ComponentLink3Description: LCSC Part URL; ComponentLink3URL: https://lcsc.com/product-detail/Inductors-SMD_Sunlord-Sunlord-SDCL0603Q24NHT02B03_C2991767.html
footprint IND-0201 (0201 (0603M) Inductor)
pins: 1, 2

## SDCL0603Q27NHT02B01
designator L?  Inductance: 27nH
Inductor, 27nH, ±3%, 1.6Ω, 120mA, SMD 0201; Manufacturer: Sunlord; Manufacturer Part Number: SDCL0603Q27NHT02B01; Package Size: 0201; JLCPCB Basic Part: No; JLCPCB Part Number: C370135; Supplier 1: LCSC; Category: Inductors; Supplier Part Number 1: C370135; Tolerance: ±3%; Rated Current: 120mA; DC Resistance: 1.6Ω; RoHS: Yes; ComponentLink1Description: Datasheet; ComponentLink1URL: https://wmsc.lcsc.com/wmsc/upload/file/pdf/v2/lcsc/2304140030_Sunlord-SDCL0603Q27NHT02B01_C370135.pdf; ComponentLink2Description: JLCPCB Part URL; ComponentLink2URL: https://jlcpcb.com/partdetail/C370135; ComponentLink3Description: LCSC Part URL; ComponentLink3URL: https://lcsc.com/product-detail/Inductors-SMD_Sunlord-Sunlord-SDCL0603Q27NHT02B01_C370135.html
footprint IND-0201 (0201 (0603M) Inductor)
pins: 1, 2

## SDCL0603Q27NHT02B03
designator L?  Inductance: 27nH
Inductor, 27nH, ±3%, 1.6Ω, 140mA, SMD 0201; Manufacturer: Sunlord; Manufacturer Part Number: SDCL0603Q27NHT02B03; Self-Resonant Frequency: 2GHz; Q Factor: 13@500MHz; Package Size: 0201; JLCPCB Basic Part: No; JLCPCB Part Number: C279877; Supplier 1: LCSC; Category: Inductors; Supplier Part Number 1: C279877; Tolerance: ±3%; Rated Current: 140mA; DC Resistance: 1.6Ω; RoHS: Yes; ComponentLink1Description: Datasheet; ComponentLink1URL: https://wmsc.lcsc.com/wmsc/upload/file/pdf/v2/lcsc/2310301641_Sunlord-SDCL0603Q27NHT02B03_C279877.pdf; ComponentLink2Description: JLCPCB Part URL; ComponentLink2URL: https://jlcpcb.com/partdetail/C279877; ComponentLink3Description: LCSC Part URL; ComponentLink3URL: https://lcsc.com/product-detail/Inductors-SMD_Sunlord-Sunlord-SDCL0603Q27NHT02B03_C279877.html
footprint IND-0201 (0201 (0603M) Inductor)
pins: 1, 2

## SDCL0603Q27NJT02B02
designator L?  Inductance: 27nH
Inductor, 27nH, ±5%, 2.1Ω, 120mA, SMD 0201; Manufacturer: Sunlord; Manufacturer Part Number: SDCL0603Q27NJT02B02; Package Size: 0201; JLCPCB Basic Part: No; JLCPCB Part Number: C279522; Supplier 1: LCSC; Category: Inductors; Supplier Part Number 1: C279522; Tolerance: ±5%; Rated Current: 120mA; DC Resistance: 2.1Ω; RoHS: Yes; ComponentLink1Description: Datasheet; ComponentLink1URL: https://wmsc.lcsc.com/wmsc/upload/file/pdf/v2/lcsc/2304140030_Sunlord-SDCL0603Q27NJT02B02_C279522.pdf; ComponentLink2Description: JLCPCB Part URL; ComponentLink2URL: https://jlcpcb.com/partdetail/C279522; ComponentLink3Description: LCSC Part URL; ComponentLink3URL: https://lcsc.com/product-detail/Inductors-SMD_Sunlord-Sunlord-SDCL0603Q27NJT02B02_C279522.html
footprint IND-0201 (0201 (0603M) Inductor)
pins: 1, 2

## SDCL0603Q33NJT02
designator L?  Inductance: 33nH
Inductor, 33nH, ±5%, 2.2Ω, 110mA, SMD 0201; Manufacturer: Sunlord; Manufacturer Part Number: SDCL0603Q33NJT02; Package Size: 0201; JLCPCB Basic Part: No; JLCPCB Part Number: C81211; Supplier 1: LCSC; Category: Inductors; Supplier Part Number 1: C81211; Tolerance: ±5%; Rated Current: 110mA; DC Resistance: 2.2Ω; RoHS: Yes; ComponentLink1Description: Datasheet; ComponentLink1URL: https://wmsc.lcsc.com/wmsc/upload/file/pdf/v2/lcsc/2304140030_Sunlord-SDCL0603Q33NJT02_C81211.pdf; ComponentLink2Description: JLCPCB Part URL; ComponentLink2URL: https://jlcpcb.com/partdetail/C81211; ComponentLink3Description: LCSC Part URL; ComponentLink3URL: https://lcsc.com/product-detail/Inductors-SMD_Sunlord-Sunlord-SDCL0603Q33NJT02_C81211.html
footprint IND-0201 (0201 (0603M) Inductor)
pins: 1, 2

## SDCL0603Q39NJT02B03
designator L?  Inductance: 39nH
Inductor, 39nH, ±5%, 2.3Ω, 120mA, SMD 0201; Manufacturer: Sunlord; Manufacturer Part Number: SDCL0603Q39NJT02B03; Self-Resonant Frequency: 1.6GHz; Q Factor: 11@300MHz; Package Size: 0201; JLCPCB Basic Part: No; JLCPCB Part Number: C2680670; Supplier 1: LCSC; Category: Inductors; Supplier Part Number 1: C2680670; Tolerance: ±5%; Rated Current: 120mA; DC Resistance: 2.3Ω; RoHS: Yes; ComponentLink1Description: Datasheet; ComponentLink1URL: https://wmsc.lcsc.com/wmsc/upload/file/pdf/v2/lcsc/2310301641_Sunlord-SDCL0603Q39NJT02B03_C2680670.pdf; ComponentLink2Description: JLCPCB Part URL; ComponentLink2URL: https://jlcpcb.com/partdetail/C2680670; ComponentLink3Description: LCSC Part URL; ComponentLink3URL: https://lcsc.com/product-detail/Inductors-SMD_Sunlord-Sunlord-SDCL0603Q39NJT02B03_C2680670.html
footprint IND-0201 (0201 (0603M) Inductor)
pins: 1, 2

## SDCL0603Q47NHT02B03
designator L?  Inductance: 47nH
Inductor, 47nH, ±3%, 2.6Ω, 100mA, SMD 0201; Manufacturer: Sunlord; Manufacturer Part Number: SDCL0603Q47NHT02B03; Self-Resonant Frequency: 1.5GHz; Q Factor: 11@300MHz; Package Size: 0201; JLCPCB Basic Part: No; JLCPCB Part Number: C2994653; Supplier 1: LCSC; Category: Inductors; Supplier Part Number 1: C2994653; Tolerance: ±3%; Rated Current: 100mA; DC Resistance: 2.6Ω; RoHS: Yes; ComponentLink1Description: Datasheet; ComponentLink1URL: https://wmsc.lcsc.com/wmsc/upload/file/pdf/v2/lcsc/2310301641_Sunlord-SDCL0603Q47NHT02B03_C2994653.pdf; ComponentLink2Description: JLCPCB Part URL; ComponentLink2URL: https://jlcpcb.com/partdetail/C2994653; ComponentLink3Description: LCSC Part URL; ComponentLink3URL: https://lcsc.com/product-detail/Inductors-SMD_Sunlord-Sunlord-SDCL0603Q47NHT02B03_C2994653.html
footprint IND-0201 (0201 (0603M) Inductor)
pins: 1, 2

## SDCL0603Q68NJT02B03
designator L?  Inductance: 68nH
Inductor, 68nH, ±5%, 3.2Ω, 100mA, SMD 0201; Manufacturer: Sunlord; Manufacturer Part Number: SDCL0603Q68NJT02B03; Self-Resonant Frequency: 1.2GHz; Q Factor: 11@300MHz; Package Size: 0201; JLCPCB Basic Part: No; JLCPCB Part Number: C918996; Supplier 1: LCSC; Category: Inductors; Supplier Part Number 1: C918996; Tolerance: ±5%; Rated Current: 100mA; DC Resistance: 3.2Ω; RoHS: Yes; ComponentLink1Description: Datasheet; ComponentLink1URL: https://wmsc.lcsc.com/wmsc/upload/file/pdf/v2/lcsc/2310301641_Sunlord-SDCL0603Q68NJT02B03_C918996.pdf; ComponentLink2Description: JLCPCB Part URL; ComponentLink2URL: https://jlcpcb.com/partdetail/C918996; ComponentLink3Description: LCSC Part URL; ComponentLink3URL: https://lcsc.com/product-detail/Inductors-SMD_Sunlord-Sunlord-SDCL0603Q68NJT02B03_C918996.html
footprint IND-0201 (0201 (0603M) Inductor)
pins: 1, 2

## SDCL0603QR10JT02
designator L?  Inductance: 100nH
Inductor, 100nH, ±5%, 4Ω, 60mA, SMD 0201; Manufacturer: Sunlord; Manufacturer Part Number: SDCL0603QR10JT02; Package Size: 0201; JLCPCB Basic Part: No; JLCPCB Part Number: C95934; Supplier 1: LCSC; Category: Inductors; Supplier Part Number 1: C95934; Tolerance: ±5%; Rated Current: 60mA; DC Resistance: 4Ω; RoHS: Yes; ComponentLink1Description: Datasheet; ComponentLink1URL: https://wmsc.lcsc.com/wmsc/upload/file/pdf/v2/lcsc/2304140030_Sunlord-SDCL0603QR10JT02_C95934.pdf; ComponentLink2Description: JLCPCB Part URL; ComponentLink2URL: https://jlcpcb.com/partdetail/C95934; ComponentLink3Description: LCSC Part URL; ComponentLink3URL: https://lcsc.com/product-detail/Inductors-SMD_Sunlord-Sunlord-SDCL0603QR10JT02_C95934.html
footprint IND-0201 (0201 (0603M) Inductor)
pins: 1, 2

## SDCL0603QR10JT02B02
designator L?  Inductance: 100nH
Inductor, 100nH, ±5%, 4Ω, 80mA, SMD 0201; Manufacturer: Sunlord; Manufacturer Part Number: SDCL0603QR10JT02B02; Package Size: 0201; JLCPCB Basic Part: No; JLCPCB Part Number: C279747; Supplier 1: LCSC; Category: Inductors; Supplier Part Number 1: C279747; Tolerance: ±5%; Rated Current: 80mA; DC Resistance: 4Ω; RoHS: Yes; ComponentLink1Description: Datasheet; ComponentLink1URL: https://wmsc.lcsc.com/wmsc/upload/file/pdf/v2/lcsc/2304140030_Sunlord-SDCL0603QR10JT02B02_C279747.pdf; ComponentLink2Description: JLCPCB Part URL; ComponentLink2URL: https://jlcpcb.com/partdetail/C279747; ComponentLink3Description: LCSC Part URL; ComponentLink3URL: https://lcsc.com/product-detail/Inductors-SMD_Sunlord-Sunlord-SDCL0603QR10JT02B02_C279747.html
footprint IND-0201 (0201 (0603M) Inductor)
pins: 1, 2

## SDCL0603QR10JT02B03
designator L?  Inductance: 100nH
Inductor, 100nH, ±5%, 4Ω, 80mA, SMD 0201; Manufacturer: Sunlord; Manufacturer Part Number: SDCL0603QR10JT02B03; Self-Resonant Frequency: 1GHz; Q Factor: 10@300MHz; Package Size: 0201; JLCPCB Basic Part: No; JLCPCB Part Number: C279667; Supplier 1: LCSC; Category: Inductors; Supplier Part Number 1: C279667; Tolerance: ±5%; Rated Current: 80mA; DC Resistance: 4Ω; RoHS: Yes; ComponentLink1Description: Datasheet; ComponentLink1URL: https://wmsc.lcsc.com/wmsc/upload/file/pdf/v2/lcsc/2310301642_Sunlord-SDCL0603QR10JT02B03_C279667.pdf; ComponentLink2Description: JLCPCB Part URL; ComponentLink2URL: https://jlcpcb.com/partdetail/C279667; ComponentLink3Description: LCSC Part URL; ComponentLink3URL: https://lcsc.com/product-detail/Inductors-SMD_Sunlord-Sunlord-SDCL0603QR10JT02B03_C279667.html
footprint IND-0201 (0201 (0603M) Inductor)
pins: 1, 2

## SDCL0603QR12JT02
designator L?  Inductance: 120nH
Inductor, 120nH, ±5%, 5Ω, 50mA, SMD 0201; Manufacturer: Sunlord; Manufacturer Part Number: SDCL0603QR12JT02; Package Size: 0201; JLCPCB Basic Part: No; JLCPCB Part Number: C95935; Supplier 1: LCSC; Category: Inductors; Supplier Part Number 1: C95935; Tolerance: ±5%; Rated Current: 50mA; DC Resistance: 5Ω; RoHS: Yes; ComponentLink1Description: Datasheet; ComponentLink1URL: https://wmsc.lcsc.com/wmsc/upload/file/pdf/v2/lcsc/2304140030_Sunlord-SDCL0603QR12JT02_C95935.pdf; ComponentLink2Description: JLCPCB Part URL; ComponentLink2URL: https://jlcpcb.com/partdetail/C95935; ComponentLink3Description: LCSC Part URL; ComponentLink3URL: https://lcsc.com/product-detail/Inductors-SMD_Sunlord-Sunlord-SDCL0603QR12JT02_C95935.html
footprint IND-0201 (0201 (0603M) Inductor)
pins: 1, 2

## SDCL0603QR12JT02B02
designator L?  Inductance: 120nH
Inductor, 120nH, ±5%, 5Ω, 80mA, SMD 0201; Manufacturer: Sunlord; Manufacturer Part Number: SDCL0603QR12JT02B02; Package Size: 0201; JLCPCB Basic Part: No; JLCPCB Part Number: C279811; Supplier 1: LCSC; Category: Inductors; Supplier Part Number 1: C279811; Tolerance: ±5%; Rated Current: 80mA; DC Resistance: 5Ω; RoHS: Yes; ComponentLink1Description: Datasheet; ComponentLink1URL: https://wmsc.lcsc.com/wmsc/upload/file/pdf/v2/lcsc/2304140030_Sunlord-SDCL0603QR12JT02B02_C279811.pdf; ComponentLink2Description: JLCPCB Part URL; ComponentLink2URL: https://jlcpcb.com/partdetail/C279811; ComponentLink3Description: LCSC Part URL; ComponentLink3URL: https://lcsc.com/product-detail/Inductors-SMD_Sunlord-Sunlord-SDCL0603QR12JT02B02_C279811.html
footprint IND-0201 (0201 (0603M) Inductor)
pins: 1, 2

## VHF060303H1N0ST
designator L?  Inductance: 1nH
Inductor, 1nH, 110mΩ, 470mA, SMD 0201; Manufacturer: FH(Guangdong Fenghua Advanced Tech); Manufacturer Part Number: VHF060303H1N0ST; Package Size: 0201; JLCPCB Basic Part: No; JLCPCB Part Number: C142492; Supplier 1: LCSC; Category: Inductors; Supplier Part Number 1: C142492; Rated Current: 470mA; DC Resistance: 110mΩ; RoHS: Yes; ComponentLink1Description: Datasheet; ComponentLink1URL: https://wmsc.lcsc.com/wmsc/upload/file/pdf/v2/lcsc/2304140030_FH--Guangdong-Fenghua-Advanced-Tech-VHF060303H1N0ST_C142492.pdf; ComponentLink2Description: JLCPCB Part URL; ComponentLink2URL: https://jlcpcb.com/partdetail/C142492; ComponentLink3Description: LCSC Part URL; ComponentLink3URL: https://lcsc.com/product-detail/Inductors-SMD_FH-Guangdong-Fenghua-Advanced-Tech-FH-Guangdong-Fenghua-Advanced-Tech-VHF060303H1N0ST_C142492.html
footprint IND-0201 (0201 (0603M) Inductor)
pins: 1, 2

## VHF060303H1N5ST
designator L?  Inductance: 1.5nH
Inductor, 1.5nH, 130mΩ, 430mA, SMD 0201; Manufacturer: FH(Guangdong Fenghua Advanced Tech); Manufacturer Part Number: VHF060303H1N5ST; Package Size: 0201; JLCPCB Basic Part: No; JLCPCB Part Number: C142494; Supplier 1: LCSC; Category: Inductors; Supplier Part Number 1: C142494; Rated Current: 430mA; DC Resistance: 130mΩ; RoHS: Yes; ComponentLink1Description: Datasheet; ComponentLink1URL: https://wmsc.lcsc.com/wmsc/upload/file/pdf/v2/lcsc/2304140030_FH--Guangdong-Fenghua-Advanced-Tech-VHF060303H1N5ST_C142494.pdf; ComponentLink2Description: JLCPCB Part URL; ComponentLink2URL: https://jlcpcb.com/partdetail/C142494; ComponentLink3Description: LCSC Part URL; ComponentLink3URL: https://lcsc.com/product-detail/Inductors-SMD_FH-Guangdong-Fenghua-Advanced-Tech-FH-Guangdong-Fenghua-Advanced-Tech-VHF060303H1N5ST_C142494.html
footprint IND-0201 (0201 (0603M) Inductor)
pins: 1, 2

## VHF060303H1N8ST
designator L?  Inductance: 1.8nH
Inductor, 1.8nH, 160mΩ, 390mA, SMD 0201; Manufacturer: FH(Guangdong Fenghua Advanced Tech); Manufacturer Part Number: VHF060303H1N8ST; Package Size: 0201; JLCPCB Basic Part: No; JLCPCB Part Number: C142495; Supplier 1: LCSC; Category: Inductors; Supplier Part Number 1: C142495; Rated Current: 390mA; DC Resistance: 160mΩ; RoHS: Yes; ComponentLink1Description: Datasheet; ComponentLink1URL: https://wmsc.lcsc.com/wmsc/upload/file/pdf/v2/lcsc/2304140030_FH--Guangdong-Fenghua-Advanced-Tech-VHF060303H1N8ST_C142495.pdf; ComponentLink2Description: JLCPCB Part URL; ComponentLink2URL: https://jlcpcb.com/partdetail/C142495; ComponentLink3Description: LCSC Part URL; ComponentLink3URL: https://lcsc.com/product-detail/Inductors-SMD_FH-Guangdong-Fenghua-Advanced-Tech-FH-Guangdong-Fenghua-Advanced-Tech-VHF060303H1N8ST_C142495.html
footprint IND-0201 (0201 (0603M) Inductor)
pins: 1, 2